# Altium footprint library Cell Protection Board.PcbLib: 4 footprints
Each footprint in its own frame and in the unit in brackets; x right, y up, seen from the top. Pads: shape width x height; smd on the part's side, far side on the other; paste and mask are expansions set on the pad; w line width, h text height; cw(c..) or ccw(c..) is an arc to the next point about the centre after c.
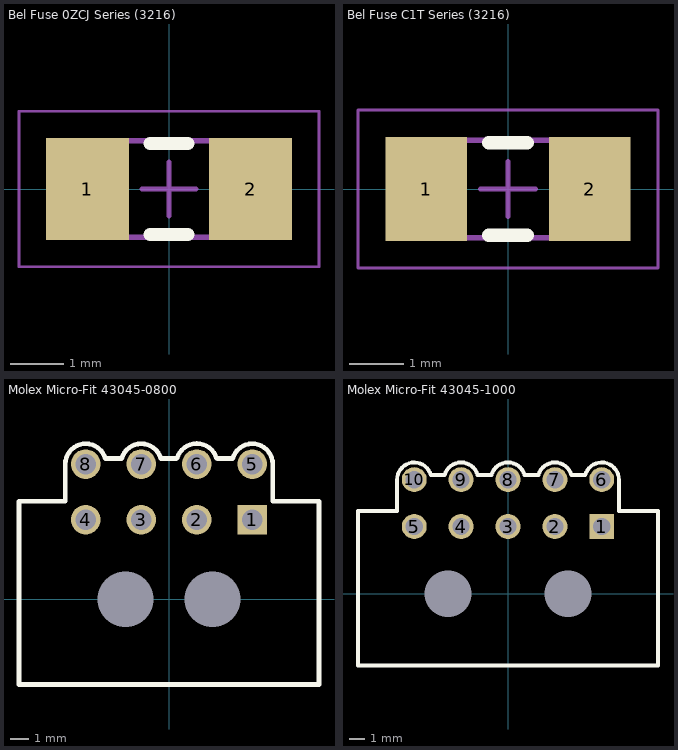
[diagram p0: the footprints below, top view; thin cyan lines are the x and y axes]

## Bel Fuse 0ZCJ Series (3216) [mm] "PTC Fuse"
height 0.85
pads (2):
  rect 1.55x1.9 smd: 1(-1.525,0) 2(1.525,0)
Top Overlay:
  lines w0.25: -0.35,-0.85 0.35,-0.85 ; -0.35,0.85 0.35,0.85
Mechanical 13:
  lines w0.1: -1.75,-0.9 -1.75,0.9 1.75,0.9 1.75,-0.9 -1.75,-0.9
Mechanical 15:
  lines w0.05: -2.8,-1.45 -2.8,1.45 2.8,1.45 2.8,-1.45 -2.8,-1.45
  lines w0.1: -0.5,0 0.5,0 ; 0,-0.5 0,0.5
3D body: height 0.85, standoff 0, extent -1.32,-0.9 1.32,0.9
3D body: height 0.85, standoff 0, extent -1.75,-0.9 -1.32,0.9
3D body: height 0.85, standoff 0, extent 1.32,-0.9 1.75,0.9

## Bel Fuse C1T Series (3216) [mm] "Slow Blow Chip Fuse"
height 0.85
pads (2):
  rect 1.5x1.9 smd: 1(-1.5,0) 2(1.5,0)
Top Overlay:
  lines w0.25: -0.35,-0.85 0.35,-0.85 ; -0.35,0.85 0.35,0.85
Mechanical 13:
  lines w0.1: -1.7,-0.89 -1.7,0.89 1.7,0.89 1.7,-0.89 -1.7,-0.89
Mechanical 15:
  lines w0.05: -2.75,-1.45 -2.75,1.45 2.75,1.45 2.75,-1.45 -2.75,-1.45
  lines w0.1: -0.5,0 0.5,0 ; 0,-0.5 0,0.5
3D body: height 0.83, standoff 0, extent -1.2,-0.89 1.2,0.89
3D body: height 0.83, standoff 0, extent -1.7,-0.89 -1.2,0.89
3D body: height 0.83, standoff 0, extent 1.2,-0.89 1.7,0.89

## Molex Micro-Fit 43045-0800 [mm] "8-Pin Right-Angle Locking Male Header"
height 8.8
pads (10):
  rect 1.6x1.6 hole 1.1: 1(4.5,4.3)
  round 1.6 hole 1.1: 2(1.5,4.3) 3(-1.5,4.3) 4(-4.5,4.3) 5(4.5,7.3) 6(1.5,7.3) 7(-1.5,7.3) 8(-4.5,7.3)
  round 0 hole 3: ""(-2.35,0) ""(2.35,0)
Top Overlay:
  lines w0.25: -3.443,7.603 ccw(c-4.5,7.3) -5.6,7.3 -5.6,5.3 -8.1,5.3 -8.1,-4.6 8.1,-4.6 8.1,5.3 5.6,5.3 5.6,7.3 ccw(c4.5,7.3) 3.443,7.603 ; -3.4,7.6 -2.6,7.6 ; -2.557,7.603 cw(c-1.5,7.3) -0.443,7.603 ; -0.4,7.6 0.4,7.6 ; 0.433,7.606 cw(c1.5,7.3) 2.567,7.606 ; 2.6,7.6 3.4,7.6
3D body: height 8.73, standoff -3.21, extent -8.075,-4.64 8.075,7.6

## Molex Micro-Fit 43045-1000 [mm] "10-Pin Right-Angle Locking Male Header"
height 8.8
pads (12):
  rect 1.6x1.6 hole 1.1: 1(6,4.3)
  round 1.6 hole 1.1: 2(3,4.3) 3(0,4.3) 4(-3,4.3) 5(-6,4.3) 6(6,7.3) 7(3,7.3) 8(0,7.3) 9(-3,7.3) 10(-6,7.3)
  round 0 hole 3: ""(-3.85,0) ""(3.85,0)
Top Overlay:
  lines w0.25: -4.943,7.603 ccw(c-6,7.3) -7.1,7.3 -7.1,5.3 -9.6,5.3 -9.6,-4.6 9.6,-4.6 9.6,5.3 7.1,5.3 7.1,7.3 ccw(c6,7.3) 4.943,7.603 ; -4.9,7.6 -4.1,7.6 ; -4.057,7.603 cw(c-3,7.3) -1.943,7.603 ; -1.9,7.6 -1.1,7.6 ; -1.067,7.6 cw(c0,7.294) 1.067,7.6 ; 1.1,7.6 1.9,7.6 ; 1.943,7.603 cw(c3,7.3) 4.057,7.603 ; 4.1,7.6 4.9,7.6
3D body: height 8.73, standoff -3.21, extent -9.575,-4.65 9.575,7.59